# Altium schematic symbol library Header_3P_Hirose_DF58.Schlib: 1 symbol
Pins are listed as number, name and electrical type; pins without a type are passive.

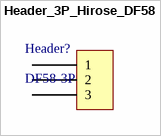
[diagram p0: symbol Header_3P_Hirose_DF58]

## Header_3P_Hirose_DF58
designator Header?, comment DF58-3P
footprint HRS_DF58_3P
pins: 1, 2, 3